# Altium schematic symbol library Regulator_Linear.SchLib: 1620 symbols (part 10 of 16)
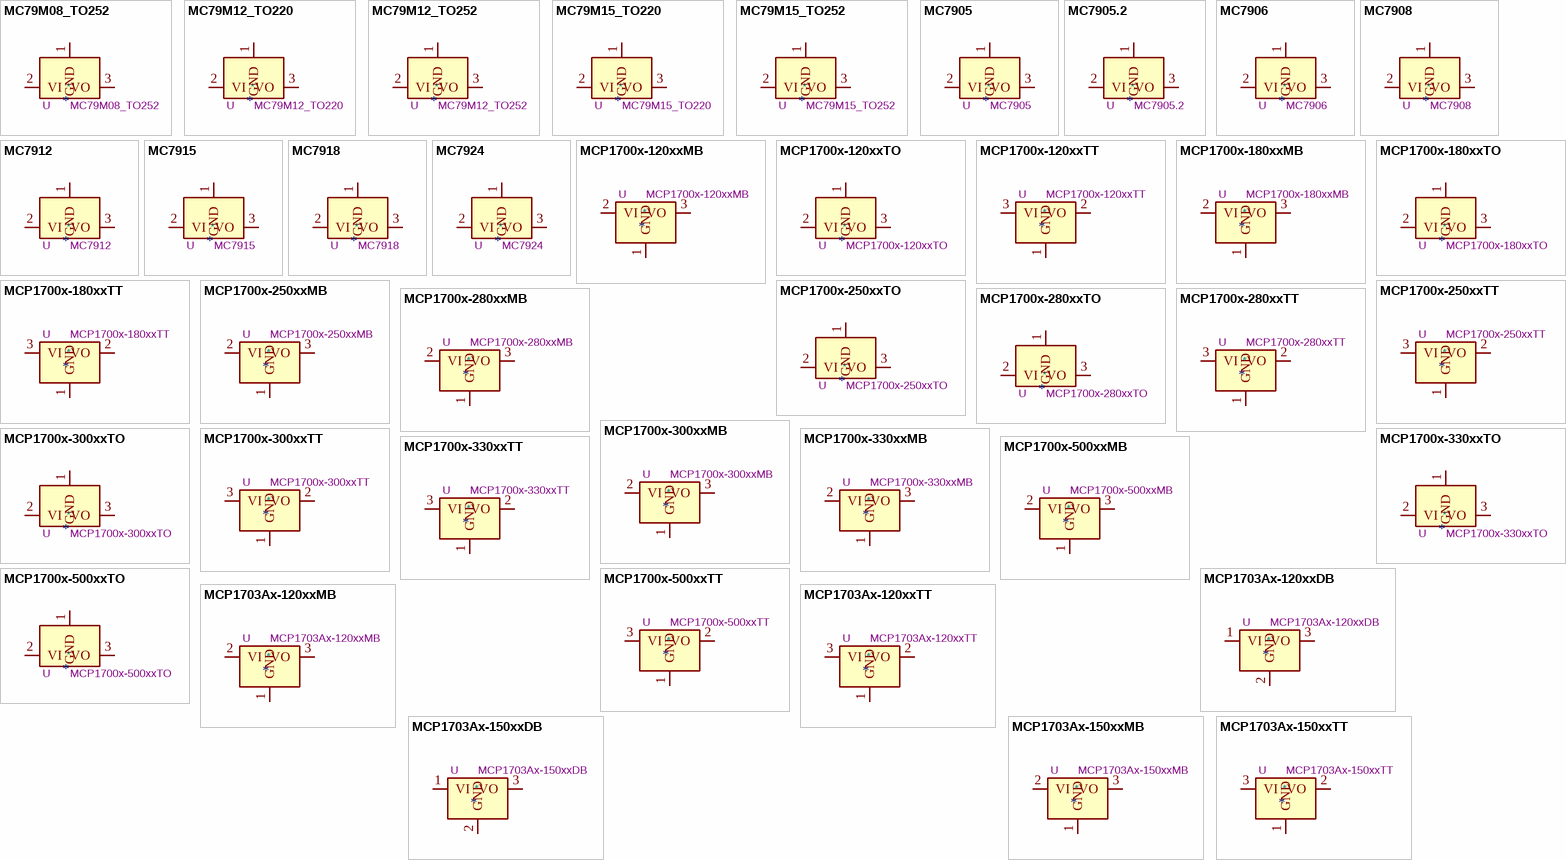
[diagram p49: symbols MC79M08_TO252 to MCP1703Ax-150xxTT]

## MCP1703Ax-120xxTT
designator *  value MCP1703Ax-120xxTT  Reference: U
Low Quiescent Current LDO Regulator, 1.2V, 250mA, Vin<=16V, SOT-23; ki_keywords: REGULATOR LDO; ki_fp_filters: SOT?23*; Footprint: Package_TO_SOT_SMD:SOT-23; Datasheet: http://ww1.microchip.com/downloads/en/DeviceDoc/20005122B.pdf; Description_: Low Quiescent Current LDO Regulator, 1.2V, 250mA, Vin<=16V, SOT-23
pins: 1 GND, 2 VO, 3 VI

## MCP1703Ax-150xxDB
designator *  value MCP1703Ax-150xxDB  Reference: U
Low Quiescent Current LDO Regulator, 1.5V, 250mA, Vin<=16V, SOT-223; ki_keywords: REGULATOR LDO; ki_fp_filters: SOT?223*TabPin2*; Footprint: Package_TO_SOT_SMD:SOT-223-3_TabPin2; Datasheet: http://ww1.microchip.com/downloads/en/DeviceDoc/20005122B.pdf; Description_: Low Quiescent Current LDO Regulator, 1.5V, 250mA, Vin<=16V, SOT-223
pins: 1 VI, 2 GND, 3 VO

## MCP1703Ax-150xxMB
designator *  value MCP1703Ax-150xxMB  Reference: U
Low Quiescent Current LDO Regulator, 1.5V, 250mA, Vin<=16V, SOT-89; ki_keywords: REGULATOR LDO; ki_fp_filters: SOT?89*; Footprint: Package_TO_SOT_SMD:SOT-89-3; Datasheet: http://ww1.microchip.com/downloads/en/DeviceDoc/20005122B.pdf; Description_: Low Quiescent Current LDO Regulator, 1.5V, 250mA, Vin<=16V, SOT-89
pins: 1 GND, 2 VI, 3 VO

## MCP1703Ax-150xxTT
designator *  value MCP1703Ax-150xxTT  Reference: U
Low Quiescent Current LDO Regulator, 1.5V, 250mA, Vin<=16V, SOT-23; ki_keywords: REGULATOR LDO; ki_fp_filters: SOT?23*; Footprint: Package_TO_SOT_SMD:SOT-23; Datasheet: http://ww1.microchip.com/downloads/en/DeviceDoc/20005122B.pdf; Description_: Low Quiescent Current LDO Regulator, 1.5V, 250mA, Vin<=16V, SOT-23
pins: 1 GND, 2 VO, 3 VI

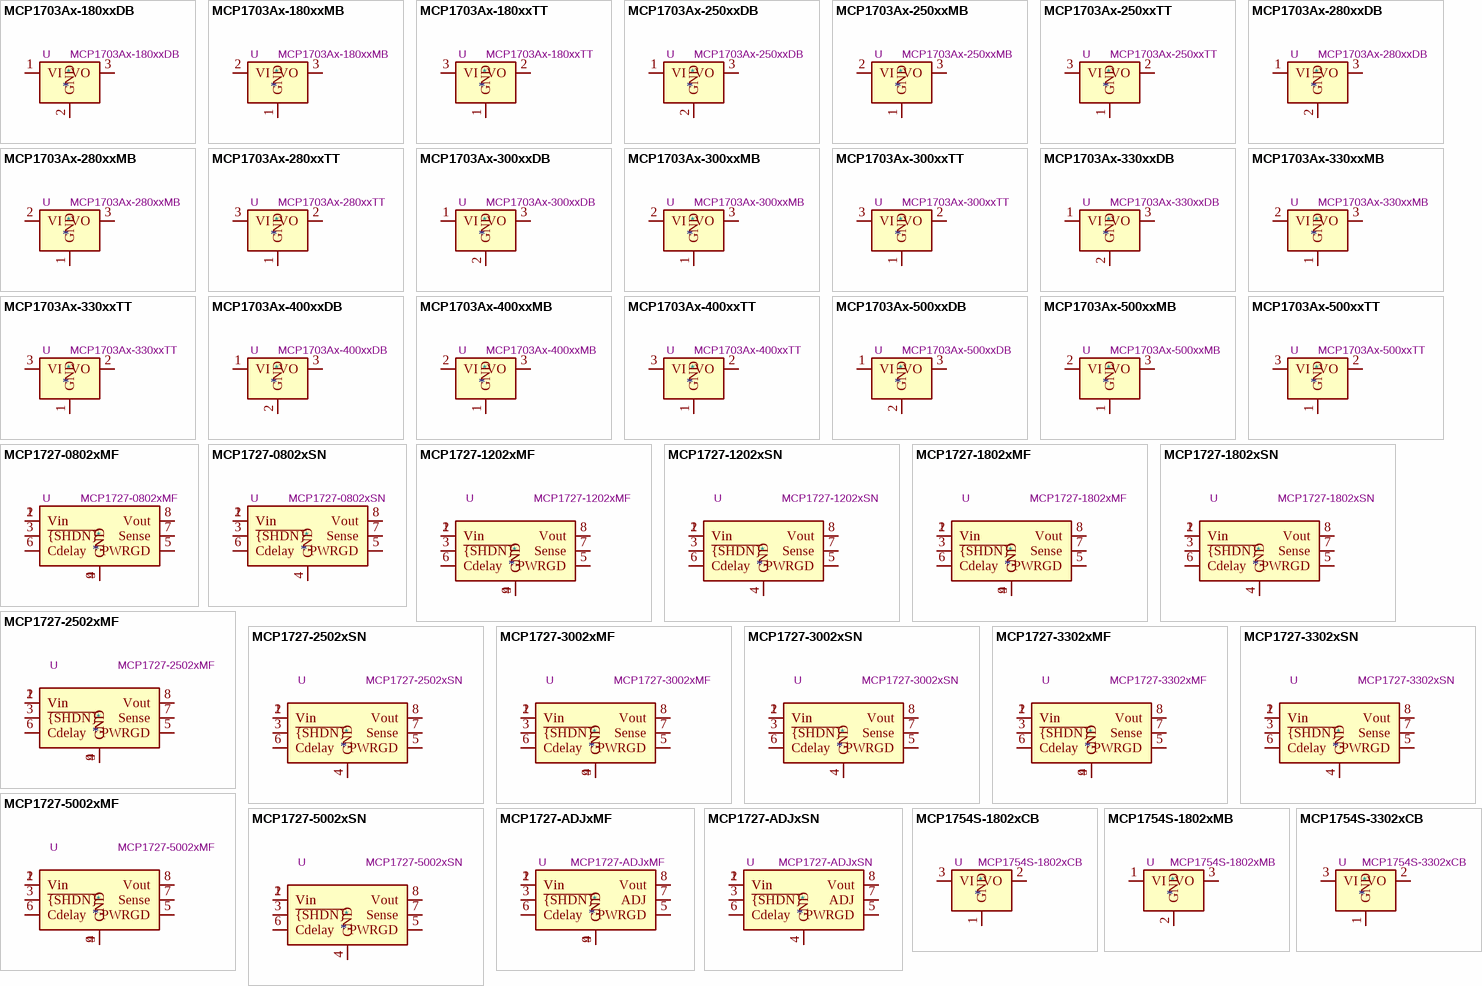
[diagram p24: symbols MCP1703Ax-180xxDB to MCP1754S-3302xCB]

## MCP1703Ax-180xxDB
designator *  value MCP1703Ax-180xxDB  Reference: U
Low Quiescent Current LDO Regulator, 1.8V, 250mA, Vin<=16V, SOT-223; ki_keywords: REGULATOR LDO; ki_fp_filters: SOT?223*TabPin2*; Footprint: Package_TO_SOT_SMD:SOT-223-3_TabPin2; Datasheet: http://ww1.microchip.com/downloads/en/DeviceDoc/20005122B.pdf; Description_: Low Quiescent Current LDO Regulator, 1.8V, 250mA, Vin<=16V, SOT-223
pins: 1 VI, 2 GND, 3 VO

## MCP1703Ax-180xxMB
designator *  value MCP1703Ax-180xxMB  Reference: U
Low Quiescent Current LDO Regulator, 1.8V, 250mA, Vin<=16V, SOT-89; ki_keywords: REGULATOR LDO; ki_fp_filters: SOT?89*; Footprint: Package_TO_SOT_SMD:SOT-89-3; Datasheet: http://ww1.microchip.com/downloads/en/DeviceDoc/20005122B.pdf; Description_: Low Quiescent Current LDO Regulator, 1.8V, 250mA, Vin<=16V, SOT-89
pins: 1 GND, 2 VI, 3 VO

## MCP1703Ax-180xxTT
designator *  value MCP1703Ax-180xxTT  Reference: U
Low Quiescent Current LDO Regulator, 1.8V, 250mA, Vin<=16V, SOT-23; ki_keywords: REGULATOR LDO; ki_fp_filters: SOT?23*; Footprint: Package_TO_SOT_SMD:SOT-23; Datasheet: http://ww1.microchip.com/downloads/en/DeviceDoc/20005122B.pdf; Description_: Low Quiescent Current LDO Regulator, 1.8V, 250mA, Vin<=16V, SOT-23
pins: 1 GND, 2 VO, 3 VI

## MCP1703Ax-250xxDB
designator *  value MCP1703Ax-250xxDB  Reference: U
Low Quiescent Current LDO Regulator, 2.5V, 250mA, Vin<=16V, SOT-223; ki_keywords: REGULATOR LDO; ki_fp_filters: SOT?223*TabPin2*; Footprint: Package_TO_SOT_SMD:SOT-223-3_TabPin2; Datasheet: http://ww1.microchip.com/downloads/en/DeviceDoc/20005122B.pdf; Description_: Low Quiescent Current LDO Regulator, 2.5V, 250mA, Vin<=16V, SOT-223
pins: 1 VI, 2 GND, 3 VO

## MCP1703Ax-250xxMB
designator *  value MCP1703Ax-250xxMB  Reference: U
Low Quiescent Current LDO Regulator, 2.5V, 250mA, Vin<=16V, SOT-89; ki_keywords: REGULATOR LDO; ki_fp_filters: SOT?89*; Footprint: Package_TO_SOT_SMD:SOT-89-3; Datasheet: http://ww1.microchip.com/downloads/en/DeviceDoc/20005122B.pdf; Description_: Low Quiescent Current LDO Regulator, 2.5V, 250mA, Vin<=16V, SOT-89
pins: 1 GND, 2 VI, 3 VO

## MCP1703Ax-250xxTT
designator *  value MCP1703Ax-250xxTT  Reference: U
Low Quiescent Current LDO Regulator, 2.5V, 250mA, Vin<=16V, SOT-23; ki_keywords: REGULATOR LDO; ki_fp_filters: SOT?23*; Footprint: Package_TO_SOT_SMD:SOT-23; Datasheet: http://ww1.microchip.com/downloads/en/DeviceDoc/20005122B.pdf; Description_: Low Quiescent Current LDO Regulator, 2.5V, 250mA, Vin<=16V, SOT-23
pins: 1 GND, 2 VO, 3 VI

## MCP1703Ax-280xxDB
designator *  value MCP1703Ax-280xxDB  Reference: U
Low Quiescent Current LDO Regulator, 2.8V, 250mA, Vin<=16V, SOT-223; ki_keywords: REGULATOR LDO; ki_fp_filters: SOT?223*TabPin2*; Footprint: Package_TO_SOT_SMD:SOT-223-3_TabPin2; Datasheet: http://ww1.microchip.com/downloads/en/DeviceDoc/20005122B.pdf; Description_: Low Quiescent Current LDO Regulator, 2.8V, 250mA, Vin<=16V, SOT-223
pins: 1 VI, 2 GND, 3 VO

## MCP1703Ax-280xxMB
designator *  value MCP1703Ax-280xxMB  Reference: U
Low Quiescent Current LDO Regulator, 2.8V, 250mA, Vin<=16V, SOT-89; ki_keywords: REGULATOR LDO; ki_fp_filters: SOT?89*; Footprint: Package_TO_SOT_SMD:SOT-89-3; Datasheet: http://ww1.microchip.com/downloads/en/DeviceDoc/20005122B.pdf; Description_: Low Quiescent Current LDO Regulator, 2.8V, 250mA, Vin<=16V, SOT-89
pins: 1 GND, 2 VI, 3 VO

## MCP1703Ax-280xxTT
designator *  value MCP1703Ax-280xxTT  Reference: U
Low Quiescent Current LDO Regulator, 2.8V, 250mA, Vin<=16V, SOT-23; ki_keywords: REGULATOR LDO; ki_fp_filters: SOT?23*; Footprint: Package_TO_SOT_SMD:SOT-23; Datasheet: http://ww1.microchip.com/downloads/en/DeviceDoc/20005122B.pdf; Description_: Low Quiescent Current LDO Regulator, 2.8V, 250mA, Vin<=16V, SOT-23
pins: 1 GND, 2 VO, 3 VI

## MCP1703Ax-300xxDB
designator *  value MCP1703Ax-300xxDB  Reference: U
Low Quiescent Current LDO Regulator, 3.0V, 250mA, Vin<=16V, SOT-223; ki_keywords: REGULATOR LDO; ki_fp_filters: SOT?223*TabPin2*; Footprint: Package_TO_SOT_SMD:SOT-223-3_TabPin2; Datasheet: http://ww1.microchip.com/downloads/en/DeviceDoc/20005122B.pdf; Description_: Low Quiescent Current LDO Regulator, 3.0V, 250mA, Vin<=16V, SOT-223
pins: 1 VI, 2 GND, 3 VO

## MCP1703Ax-300xxMB
designator *  value MCP1703Ax-300xxMB  Reference: U
Low Quiescent Current LDO Regulator, 3.0V, 250mA, Vin<=16V, SOT-89; ki_keywords: REGULATOR LDO; ki_fp_filters: SOT?89*; Footprint: Package_TO_SOT_SMD:SOT-89-3; Datasheet: http://ww1.microchip.com/downloads/en/DeviceDoc/20005122B.pdf; Description_: Low Quiescent Current LDO Regulator, 3.0V, 250mA, Vin<=16V, SOT-89
pins: 1 GND, 2 VI, 3 VO

## MCP1703Ax-300xxTT
designator *  value MCP1703Ax-300xxTT  Reference: U
Low Quiescent Current LDO Regulator, 3.0V, 250mA, Vin<=16V, SOT-23; ki_keywords: REGULATOR LDO; ki_fp_filters: SOT?23*; Footprint: Package_TO_SOT_SMD:SOT-23; Datasheet: http://ww1.microchip.com/downloads/en/DeviceDoc/20005122B.pdf; Description_: Low Quiescent Current LDO Regulator, 3.0V, 250mA, Vin<=16V, SOT-23
pins: 1 GND, 2 VO, 3 VI

## MCP1703Ax-330xxDB
designator *  value MCP1703Ax-330xxDB  Reference: U
Low Quiescent Current LDO Regulator, 3.3V, 250mA, Vin<=16V, SOT-223; ki_keywords: REGULATOR LDO; ki_fp_filters: SOT?223*TabPin2*; Footprint: Package_TO_SOT_SMD:SOT-223-3_TabPin2; Datasheet: http://ww1.microchip.com/downloads/en/DeviceDoc/20005122B.pdf; Description_: Low Quiescent Current LDO Regulator, 3.3V, 250mA, Vin<=16V, SOT-223
pins: 1 VI, 2 GND, 3 VO

## MCP1703Ax-330xxMB
designator *  value MCP1703Ax-330xxMB  Reference: U
Low Quiescent Current LDO Regulator, 3.3V, 250mA, Vin<=16V, SOT-89; ki_keywords: REGULATOR LDO; ki_fp_filters: SOT?89*; Footprint: Package_TO_SOT_SMD:SOT-89-3; Datasheet: http://ww1.microchip.com/downloads/en/DeviceDoc/20005122B.pdf; Description_: Low Quiescent Current LDO Regulator, 3.3V, 250mA, Vin<=16V, SOT-89
pins: 1 GND, 2 VI, 3 VO

## MCP1703Ax-330xxTT
designator *  value MCP1703Ax-330xxTT  Reference: U
Low Quiescent Current LDO Regulator, 3.3V, 250mA, Vin<=16V, SOT-23; ki_keywords: REGULATOR LDO; ki_fp_filters: SOT?23*; Footprint: Package_TO_SOT_SMD:SOT-23; Datasheet: http://ww1.microchip.com/downloads/en/DeviceDoc/20005122B.pdf; Description_: Low Quiescent Current LDO Regulator, 3.3V, 250mA, Vin<=16V, SOT-23
pins: 1 GND, 2 VO, 3 VI

## MCP1703Ax-400xxDB
designator *  value MCP1703Ax-400xxDB  Reference: U
Low Quiescent Current LDO Regulator, 4.0V, 250mA, Vin<=16V, SOT-223; ki_keywords: REGULATOR LDO; ki_fp_filters: SOT?223*TabPin2*; Footprint: Package_TO_SOT_SMD:SOT-223-3_TabPin2; Datasheet: http://ww1.microchip.com/downloads/en/DeviceDoc/20005122B.pdf; Description_: Low Quiescent Current LDO Regulator, 4.0V, 250mA, Vin<=16V, SOT-223
pins: 1 VI, 2 GND, 3 VO

## MCP1703Ax-400xxMB
designator *  value MCP1703Ax-400xxMB  Reference: U
Low Quiescent Current LDO Regulator, 4.0V, 250mA, Vin<=16V, SOT-89; ki_keywords: REGULATOR LDO; ki_fp_filters: SOT?89*; Footprint: Package_TO_SOT_SMD:SOT-89-3; Datasheet: http://ww1.microchip.com/downloads/en/DeviceDoc/20005122B.pdf; Description_: Low Quiescent Current LDO Regulator, 4.0V, 250mA, Vin<=16V, SOT-89
pins: 1 GND, 2 VI, 3 VO

## MCP1703Ax-400xxTT
designator *  value MCP1703Ax-400xxTT  Reference: U
Low Quiescent Current LDO Regulator, 4.0V, 250mA, Vin<=16V, SOT-23; ki_keywords: REGULATOR LDO; ki_fp_filters: SOT?23*; Footprint: Package_TO_SOT_SMD:SOT-23; Datasheet: http://ww1.microchip.com/downloads/en/DeviceDoc/20005122B.pdf; Description_: Low Quiescent Current LDO Regulator, 4.0V, 250mA, Vin<=16V, SOT-23
pins: 1 GND, 2 VO, 3 VI

## MCP1703Ax-500xxDB
designator *  value MCP1703Ax-500xxDB  Reference: U
Low Quiescent Current LDO Regulator, 5.0V, 250mA, Vin<=16V, SOT-223; ki_keywords: REGULATOR LDO; ki_fp_filters: SOT?223*TabPin2*; Footprint: Package_TO_SOT_SMD:SOT-223-3_TabPin2; Datasheet: http://ww1.microchip.com/downloads/en/DeviceDoc/20005122B.pdf; Description_: Low Quiescent Current LDO Regulator, 5.0V, 250mA, Vin<=16V, SOT-223
pins: 1 VI, 2 GND, 3 VO

## MCP1703Ax-500xxMB
designator *  value MCP1703Ax-500xxMB  Reference: U
Low Quiescent Current LDO Regulator, 5.0V, 250mA, Vin<=16V, SOT-89; ki_keywords: REGULATOR LDO; ki_fp_filters: SOT?89*; Footprint: Package_TO_SOT_SMD:SOT-89-3; Datasheet: http://ww1.microchip.com/downloads/en/DeviceDoc/20005122B.pdf; Description_: Low Quiescent Current LDO Regulator, 5.0V, 250mA, Vin<=16V, SOT-89
pins: 1 GND, 2 VI, 3 VO

## MCP1703Ax-500xxTT
designator *  value MCP1703Ax-500xxTT  Reference: U
Low Quiescent Current LDO Regulator, 5.0V, 250mA, Vin<=16V, SOT-23; ki_keywords: REGULATOR LDO; ki_fp_filters: SOT?23*; Footprint: Package_TO_SOT_SMD:SOT-23; Datasheet: http://ww1.microchip.com/downloads/en/DeviceDoc/20005122B.pdf; Description_: Low Quiescent Current LDO Regulator, 5.0V, 250mA, Vin<=16V, SOT-23
pins: 1 GND, 2 VO, 3 VI

## MCP1727-0802xMF
designator *  value MCP1727-0802xMF  Reference: U
1.5A, Low Voltage, Low Quiescent Current LDO Regulator, 2.3 - 6V Input, Fixed 0.8V Output, 330mV Dropout, DFN-8; ki_keywords: Low Voltage Low Quiescent Current Fixed LDO Regulator; ki_fp_filters: DFN*3x3mm*P0.65mm*; Footprint: Package_DFN_QFN:DFN-8-1EP_3x3mm_P0.65mm_EP1.55x2.4mm; Datasheet: https://ww1.microchip.com/downloads/aemtest/APID/ProductDocuments/DataSheets/MCP1727-1.5A-Low-Voltage-Low-Quiescent-Current-LDO-Regulator-20001999D.pdf; Description_: 1.5A, Low Voltage, Low Quiescent Current LDO Regulator, 2.3 - 6V Input, Fixed 0.8V Output, 330mV Dropout, DFN-8
pins: 1 Vin, 2 Vin, 3 ~{{SHDN}}, 4 GND, 5 PWRGD, 6 Cdelay, 7 Sense, 8 Vout, 9 GND

## MCP1727-0802xSN
designator *  value MCP1727-0802xSN  Reference: U
1.5A, Low Voltage, Low Quiescent Current LDO Regulator, 2.3 - 6V Input, Fixed 0.8V Output, 330mV Dropout, SOIC-8; ki_keywords: Low Voltage Low Quiescent Current Fixed LDO Regulator; ki_fp_filters: SOIC*3.9x4.9mm*P1.27mm*; Footprint: Package_SO:SOIC-8_3.9x4.9mm_P1.27mm; Datasheet: https://ww1.microchip.com/downloads/aemtest/APID/ProductDocuments/DataSheets/MCP1727-1.5A-Low-Voltage-Low-Quiescent-Current-LDO-Regulator-20001999D.pdf; Description_: 1.5A, Low Voltage, Low Quiescent Current LDO Regulator, 2.3 - 6V Input, Fixed 0.8V Output, 330mV Dropout, SOIC-8
pins: 1 Vin, 2 Vin, 3 ~{{SHDN}}, 4 GND, 5 PWRGD, 6 Cdelay, 7 Sense, 8 Vout

## MCP1727-1202xMF
designator *  value MCP1727-1202xMF  Reference: U
1.5A, Low Voltage, Low Quiescent Current LDO Regulator, 2.3 - 6V Input, Fixed 1.2V Output, 330mV Dropout, DFN-8; ki_keywords: Low Voltage Low Quiescent Current Fixed LDO Regulator; ki_fp_filters: DFN*3x3mm*P0.65mm*; Footprint: Package_DFN_QFN:DFN-8-1EP_3x3mm_P0.65mm_EP1.55x2.4mm; Datasheet: https://ww1.microchip.com/downloads/aemtest/APID/ProductDocuments/DataSheets/MCP1727-1.5A-Low-Voltage-Low-Quiescent-Current-LDO-Regulator-20001999D.pdf; Description_: 1.5A, Low Voltage, Low Quiescent Current LDO Regulator, 2.3 - 6V Input, Fixed 1.2V Output, 330mV Dropout, DFN-8
pins: 1 Vin, 2 Vin, 3 ~{{SHDN}}, 4 GND, 5 PWRGD, 6 Cdelay, 7 Sense, 8 Vout, 9 GND

## MCP1727-1202xSN
designator *  value MCP1727-1202xSN  Reference: U
1.5A, Low Voltage, Low Quiescent Current LDO Regulator, 2.3 - 6V Input, Fixed 1.2V Output, 330mV Dropout, SOIC-8; ki_keywords: Low Voltage Low Quiescent Current Fixed LDO Regulator; ki_fp_filters: SOIC*3.9x4.9mm*P1.27mm*; Footprint: Package_SO:SOIC-8_3.9x4.9mm_P1.27mm; Datasheet: https://ww1.microchip.com/downloads/aemtest/APID/ProductDocuments/DataSheets/MCP1727-1.5A-Low-Voltage-Low-Quiescent-Current-LDO-Regulator-20001999D.pdf; Description_: 1.5A, Low Voltage, Low Quiescent Current LDO Regulator, 2.3 - 6V Input, Fixed 1.2V Output, 330mV Dropout, SOIC-8
pins: 1 Vin, 2 Vin, 3 ~{{SHDN}}, 4 GND, 5 PWRGD, 6 Cdelay, 7 Sense, 8 Vout

## MCP1727-1802xMF
designator *  value MCP1727-1802xMF  Reference: U
1.5A, Low Voltage, Low Quiescent Current LDO Regulator, 2.3 - 6V Input, Fixed 1.8V Output, 330mV Dropout, DFN-8; ki_keywords: Low Voltage Low Quiescent Current Fixed LDO Regulator; ki_fp_filters: DFN*3x3mm*P0.65mm*; Footprint: Package_DFN_QFN:DFN-8-1EP_3x3mm_P0.65mm_EP1.55x2.4mm; Datasheet: https://ww1.microchip.com/downloads/aemtest/APID/ProductDocuments/DataSheets/MCP1727-1.5A-Low-Voltage-Low-Quiescent-Current-LDO-Regulator-20001999D.pdf; Description_: 1.5A, Low Voltage, Low Quiescent Current LDO Regulator, 2.3 - 6V Input, Fixed 1.8V Output, 330mV Dropout, DFN-8
pins: 1 Vin, 2 Vin, 3 ~{{SHDN}}, 4 GND, 5 PWRGD, 6 Cdelay, 7 Sense, 8 Vout, 9 GND

## MCP1727-1802xSN
designator *  value MCP1727-1802xSN  Reference: U
1.5A, Low Voltage, Low Quiescent Current LDO Regulator, 2.3 - 6V Input, Fixed 1.8V Output, 330mV Dropout, SOIC-8; ki_keywords: Low Voltage Low Quiescent Current Fixed LDO Regulator; ki_fp_filters: SOIC*3.9x4.9mm*P1.27mm*; Footprint: Package_SO:SOIC-8_3.9x4.9mm_P1.27mm; Datasheet: https://ww1.microchip.com/downloads/aemtest/APID/ProductDocuments/DataSheets/MCP1727-1.5A-Low-Voltage-Low-Quiescent-Current-LDO-Regulator-20001999D.pdf; Description_: 1.5A, Low Voltage, Low Quiescent Current LDO Regulator, 2.3 - 6V Input, Fixed 1.8V Output, 330mV Dropout, SOIC-8
pins: 1 Vin, 2 Vin, 3 ~{{SHDN}}, 4 GND, 5 PWRGD, 6 Cdelay, 7 Sense, 8 Vout

## MCP1727-2502xMF
designator *  value MCP1727-2502xMF  Reference: U
1.5A, Low Voltage, Low Quiescent Current LDO Regulator, 2.3 - 6V Input, Fixed 2.5V Output, 330mV Dropout, DFN-8; ki_keywords: Low Voltage Low Quiescent Current Fixed LDO Regulator; ki_fp_filters: DFN*3x3mm*P0.65mm*; Footprint: Package_DFN_QFN:DFN-8-1EP_3x3mm_P0.65mm_EP1.55x2.4mm; Datasheet: https://ww1.microchip.com/downloads/aemtest/APID/ProductDocuments/DataSheets/MCP1727-1.5A-Low-Voltage-Low-Quiescent-Current-LDO-Regulator-20001999D.pdf; Description_: 1.5A, Low Voltage, Low Quiescent Current LDO Regulator, 2.3 - 6V Input, Fixed 2.5V Output, 330mV Dropout, DFN-8
pins: 1 Vin, 2 Vin, 3 ~{{SHDN}}, 4 GND, 5 PWRGD, 6 Cdelay, 7 Sense, 8 Vout, 9 GND

## MCP1727-2502xSN
designator *  value MCP1727-2502xSN  Reference: U
1.5A, Low Voltage, Low Quiescent Current LDO Regulator, 2.3 - 6V Input, Fixed 2.5V Output, 330mV Dropout, SOIC-8; ki_keywords: Low Voltage Low Quiescent Current Fixed LDO Regulator; ki_fp_filters: SOIC*3.9x4.9mm*P1.27mm*; Footprint: Package_SO:SOIC-8_3.9x4.9mm_P1.27mm; Datasheet: https://ww1.microchip.com/downloads/aemtest/APID/ProductDocuments/DataSheets/MCP1727-1.5A-Low-Voltage-Low-Quiescent-Current-LDO-Regulator-20001999D.pdf; Description_: 1.5A, Low Voltage, Low Quiescent Current LDO Regulator, 2.3 - 6V Input, Fixed 2.5V Output, 330mV Dropout, SOIC-8
pins: 1 Vin, 2 Vin, 3 ~{{SHDN}}, 4 GND, 5 PWRGD, 6 Cdelay, 7 Sense, 8 Vout

## MCP1727-3002xMF
designator *  value MCP1727-3002xMF  Reference: U
1.5A, Low Voltage, Low Quiescent Current LDO Regulator, 2.3 - 6V Input, Fixed 3.0V Output, 330mV Dropout, DFN-8; ki_keywords: Low Voltage Low Quiescent Current Fixed LDO Regulator; ki_fp_filters: DFN*3x3mm*P0.65mm*; Footprint: Package_DFN_QFN:DFN-8-1EP_3x3mm_P0.65mm_EP1.55x2.4mm; Datasheet: https://ww1.microchip.com/downloads/aemtest/APID/ProductDocuments/DataSheets/MCP1727-1.5A-Low-Voltage-Low-Quiescent-Current-LDO-Regulator-20001999D.pdf; Description_: 1.5A, Low Voltage, Low Quiescent Current LDO Regulator, 2.3 - 6V Input, Fixed 3.0V Output, 330mV Dropout, DFN-8
pins: 1 Vin, 2 Vin, 3 ~{{SHDN}}, 4 GND, 5 PWRGD, 6 Cdelay, 7 Sense, 8 Vout, 9 GND

## MCP1727-3002xSN
designator *  value MCP1727-3002xSN  Reference: U
1.5A, Low Voltage, Low Quiescent Current LDO Regulator, 2.3 - 6V Input, Fixed 3.0V Output, 330mV Dropout, SOIC-8; ki_keywords: Low Voltage Low Quiescent Current Fixed LDO Regulator; ki_fp_filters: SOIC*3.9x4.9mm*P1.27mm*; Footprint: Package_SO:SOIC-8_3.9x4.9mm_P1.27mm; Datasheet: https://ww1.microchip.com/downloads/aemtest/APID/ProductDocuments/DataSheets/MCP1727-1.5A-Low-Voltage-Low-Quiescent-Current-LDO-Regulator-20001999D.pdf; Description_: 1.5A, Low Voltage, Low Quiescent Current LDO Regulator, 2.3 - 6V Input, Fixed 3.0V Output, 330mV Dropout, SOIC-8
pins: 1 Vin, 2 Vin, 3 ~{{SHDN}}, 4 GND, 5 PWRGD, 6 Cdelay, 7 Sense, 8 Vout

## MCP1727-3302xMF
designator *  value MCP1727-3302xMF  Reference: U
1.5A, Low Voltage, Low Quiescent Current LDO Regulator, 2.3 - 6V Input, Fixed 3.3V Output, 330mV Dropout, DFN-8; ki_keywords: Low Voltage Low Quiescent Current Fixed LDO Regulator; ki_fp_filters: DFN*3x3mm*P0.65mm*; Footprint: Package_DFN_QFN:DFN-8-1EP_3x3mm_P0.65mm_EP1.55x2.4mm; Datasheet: https://ww1.microchip.com/downloads/aemtest/APID/ProductDocuments/DataSheets/MCP1727-1.5A-Low-Voltage-Low-Quiescent-Current-LDO-Regulator-20001999D.pdf; Description_: 1.5A, Low Voltage, Low Quiescent Current LDO Regulator, 2.3 - 6V Input, Fixed 3.3V Output, 330mV Dropout, DFN-8
pins: 1 Vin, 2 Vin, 3 ~{{SHDN}}, 4 GND, 5 PWRGD, 6 Cdelay, 7 Sense, 8 Vout, 9 GND

## MCP1727-3302xSN
designator *  value MCP1727-3302xSN  Reference: U
1.5A, Low Voltage, Low Quiescent Current LDO Regulator, 2.3 - 6V Input, Fixed 3.3V Output, 330mV Dropout, SOIC-8; ki_keywords: Low Voltage Low Quiescent Current Fixed LDO Regulator; ki_fp_filters: SOIC*3.9x4.9mm*P1.27mm*; Footprint: Package_SO:SOIC-8_3.9x4.9mm_P1.27mm; Datasheet: https://ww1.microchip.com/downloads/aemtest/APID/ProductDocuments/DataSheets/MCP1727-1.5A-Low-Voltage-Low-Quiescent-Current-LDO-Regulator-20001999D.pdf; Description_: 1.5A, Low Voltage, Low Quiescent Current LDO Regulator, 2.3 - 6V Input, Fixed 3.3V Output, 330mV Dropout, SOIC-8
pins: 1 Vin, 2 Vin, 3 ~{{SHDN}}, 4 GND, 5 PWRGD, 6 Cdelay, 7 Sense, 8 Vout

## MCP1727-5002xMF
designator *  value MCP1727-5002xMF  Reference: U
1.5A, Low Voltage, Low Quiescent Current LDO Regulator, 2.3 - 6V Input, Fixed 5.0V Output, 330mV Dropout, DFN-8; ki_keywords: Low Voltage Low Quiescent Current Fixed LDO Regulator; ki_fp_filters: DFN*3x3mm*P0.65mm*; Footprint: Package_DFN_QFN:DFN-8-1EP_3x3mm_P0.65mm_EP1.55x2.4mm; Datasheet: https://ww1.microchip.com/downloads/aemtest/APID/ProductDocuments/DataSheets/MCP1727-1.5A-Low-Voltage-Low-Quiescent-Current-LDO-Regulator-20001999D.pdf; Description_: 1.5A, Low Voltage, Low Quiescent Current LDO Regulator, 2.3 - 6V Input, Fixed 5.0V Output, 330mV Dropout, DFN-8
pins: 1 Vin, 2 Vin, 3 ~{{SHDN}}, 4 GND, 5 PWRGD, 6 Cdelay, 7 Sense, 8 Vout, 9 GND

## MCP1727-5002xSN
designator *  value MCP1727-5002xSN  Reference: U
1.5A, Low Voltage, Low Quiescent Current LDO Regulator, 2.3 - 6V Input, Fixed 5.0V Output, 330mV Dropout, SOIC-8; ki_keywords: Low Voltage Low Quiescent Current Fixed LDO Regulator; ki_fp_filters: SOIC*3.9x4.9mm*P1.27mm*; Footprint: Package_SO:SOIC-8_3.9x4.9mm_P1.27mm; Datasheet: https://ww1.microchip.com/downloads/aemtest/APID/ProductDocuments/DataSheets/MCP1727-1.5A-Low-Voltage-Low-Quiescent-Current-LDO-Regulator-20001999D.pdf; Description_: 1.5A, Low Voltage, Low Quiescent Current LDO Regulator, 2.3 - 6V Input, Fixed 5.0V Output, 330mV Dropout, SOIC-8
pins: 1 Vin, 2 Vin, 3 ~{{SHDN}}, 4 GND, 5 PWRGD, 6 Cdelay, 7 Sense, 8 Vout

## MCP1727-ADJxMF
designator *  value MCP1727-ADJxMF  Reference: U
1.5A, Low Voltage, Low Quiescent Current LDO Regulator, 2.3 - 6V Input, Adjustable Output, 330mV Dropout, DFN-8; ki_keywords: Low Voltage Low Quiescent Current Adjustable LDO Regulator; ki_fp_filters: DFN*3x3mm*P0.65mm*; Footprint: Package_DFN_QFN:DFN-8-1EP_3x3mm_P0.65mm_EP1.55x2.4mm; Datasheet: https://ww1.microchip.com/downloads/aemtest/APID/ProductDocuments/DataSheets/MCP1727-1.5A-Low-Voltage-Low-Quiescent-Current-LDO-Regulator-20001999D.pdf; Description_: 1.5A, Low Voltage, Low Quiescent Current LDO Regulator, 2.3 - 6V Input, Adjustable Output, 330mV Dropout, DFN-8
pins: 1 Vin, 2 Vin, 3 ~{{SHDN}}, 4 GND, 5 PWRGD, 6 Cdelay, 7 ADJ, 8 Vout, 9 GND

## MCP1727-ADJxSN
designator *  value MCP1727-ADJxSN  Reference: U
1.5A, Low Voltage, Low Quiescent Current LDO Regulator, 2.3 - 6V Input, Adjustable Output, 330mV Dropout, SOIC-8; ki_keywords: Low Voltage Low Quiescent Current Adjustable LDO Regulator; ki_fp_filters: SOIC*3.9x4.9mm*P1.27mm*; Footprint: Package_SO:SOIC-8_3.9x4.9mm_P1.27mm; Datasheet: https://ww1.microchip.com/downloads/aemtest/APID/ProductDocuments/DataSheets/MCP1727-1.5A-Low-Voltage-Low-Quiescent-Current-LDO-Regulator-20001999D.pdf; Description_: 1.5A, Low Voltage, Low Quiescent Current LDO Regulator, 2.3 - 6V Input, Adjustable Output, 330mV Dropout, SOIC-8
pins: 1 Vin, 2 Vin, 3 ~{{SHDN}}, 4 GND, 5 PWRGD, 6 Cdelay, 7 ADJ, 8 Vout

## MCP1754S-1802xCB
designator *  value MCP1754S-1802xCB  Reference: U
Fixed 150mA Low Dropout Voltage Regulator, Positive, 1.8V output, SOT-23; ki_keywords: Regulator LDO; ki_fp_filters: SOT?23*; Footprint: Package_TO_SOT_SMD:SOT-23; Datasheet: http://ww1.microchip.com/downloads/en/DeviceDoc/20002276C.pdf; Description_: Fixed 150mA Low Dropout Voltage Regulator, Positive, 1.8V output, SOT-23
pins: 1 GND, 2 VO, 3 VI

## MCP1754S-1802xMB
designator *  value MCP1754S-1802xMB  Reference: U
Fixed 150mA Low Dropout Voltage Regulator, Positive, 1.8V output, SOT-89; ki_keywords: Regulator LDO; ki_fp_filters: SOT?89*; Footprint: Package_TO_SOT_SMD:SOT-89-3; Datasheet: http://ww1.microchip.com/downloads/en/DeviceDoc/20002276C.pdf; Description_: Fixed 150mA Low Dropout Voltage Regulator, Positive, 1.8V output, SOT-89
pins: 1 VI, 2 GND, 3 VO

## MCP1754S-3302xCB
designator *  value MCP1754S-3302xCB  Reference: U
Fixed 150mA Low Dropout Voltage Regulator, Positive, 3.3V output, SOT-23; ki_keywords: Regulator LDO; ki_fp_filters: SOT?23*; Footprint: Package_TO_SOT_SMD:SOT-23; Datasheet: http://ww1.microchip.com/downloads/en/DeviceDoc/20002276C.pdf; Description_: Fixed 150mA Low Dropout Voltage Regulator, Positive, 3.3V output, SOT-23
pins: 1 GND, 2 VO, 3 VI

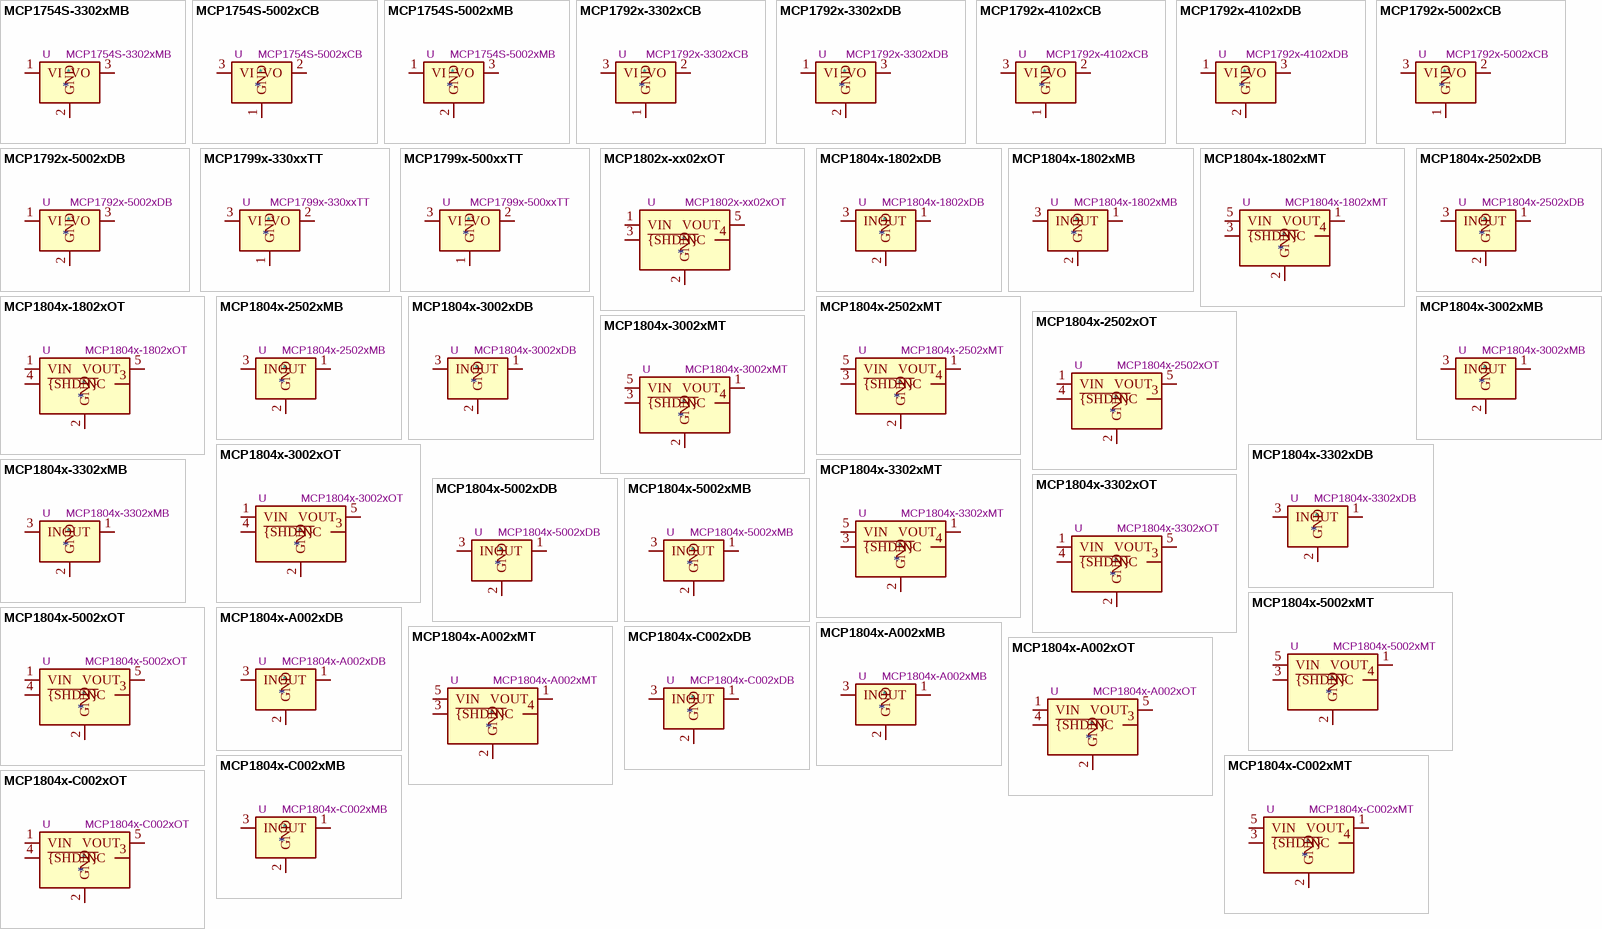
[diagram p25: symbols MCP1754S-3302xMB to MCP1804x-C002xOT]

## MCP1754S-3302xMB
designator *  value MCP1754S-3302xMB  Reference: U
Fixed 150mA Low Dropout Voltage Regulator, Positive, 3.3V output, SOT-89; ki_keywords: Regulator LDO; ki_fp_filters: SOT?89*; Footprint: Package_TO_SOT_SMD:SOT-89-3; Datasheet: http://ww1.microchip.com/downloads/en/DeviceDoc/20002276C.pdf; Description_: Fixed 150mA Low Dropout Voltage Regulator, Positive, 3.3V output, SOT-89
pins: 1 VI, 2 GND, 3 VO

## MCP1754S-5002xCB
designator *  value MCP1754S-5002xCB  Reference: U
Fixed 150mA Low Dropout Voltage Regulator, Positive, 5V output, SOT-23; ki_keywords: Regulator LDO; ki_fp_filters: SOT?23*; Footprint: Package_TO_SOT_SMD:SOT-23; Datasheet: http://ww1.microchip.com/downloads/en/DeviceDoc/20002276C.pdf; Description_: Fixed 150mA Low Dropout Voltage Regulator, Positive, 5V output, SOT-23
pins: 1 GND, 2 VO, 3 VI

## MCP1754S-5002xMB
designator *  value MCP1754S-5002xMB  Reference: U
Fixed 150mA Low Dropout Voltage Regulator, Positive, 5V output, SOT-89; ki_keywords: Regulator LDO; ki_fp_filters: SOT?89*; Footprint: Package_TO_SOT_SMD:SOT-89-3; Datasheet: http://ww1.microchip.com/downloads/en/DeviceDoc/20002276C.pdf; Description_: Fixed 150mA Low Dropout Voltage Regulator, Positive, 5V output, SOT-89
pins: 1 VI, 2 GND, 3 VO

## MCP1792x-3302xCB
designator *  value MCP1792x-3302xCB  Reference: U
100mA Low Quiscent Current LDO, 4.5-55V input, 3.3V output, SOT-23; ki_keywords: regulator linear ldo; ki_fp_filters: SOT?23*; Footprint: Package_TO_SOT_SMD:SOT-23; Datasheet: https://ww1.microchip.com/downloads/aemDocuments/documents/APID/ProductDocuments/DataSheets/MCP1792-Family-Data-Sheet-DS20006229D.pdf; Description_: 100mA Low Quiscent Current LDO, 4.5-55V input, 3.3V output, SOT-23
pins: 1 GND, 2 VO, 3 VI

## MCP1792x-3302xDB
designator *  value MCP1792x-3302xDB  Reference: U
Low Quiescent Current LDO Regulator, 4.5-55V input, 3.3V, 100mA, SOT-223; ki_keywords: REGULATOR LDO; ki_fp_filters: SOT?223*TabPin2*; Footprint: Package_TO_SOT_SMD:SOT-223-3_TabPin2; Datasheet: https://ww1.microchip.com/downloads/aemDocuments/documents/APID/ProductDocuments/DataSheets/MCP1792-Family-Data-Sheet-DS20006229D.pdf; Description_: Low Quiescent Current LDO Regulator, 4.5-55V input, 3.3V, 100mA, SOT-223
pins: 1 VI, 2 GND, 3 VO

## MCP1792x-4102xCB
designator *  value MCP1792x-4102xCB  Reference: U
100mA Low Quiscent Current LDO, 4.5-55V input, 4.1V output, SOT-23; ki_keywords: regulator linear ldo; ki_fp_filters: SOT?23*; Footprint: Package_TO_SOT_SMD:SOT-23; Datasheet: https://ww1.microchip.com/downloads/aemDocuments/documents/APID/ProductDocuments/DataSheets/MCP1792-Family-Data-Sheet-DS20006229D.pdf; Description_: 100mA Low Quiscent Current LDO, 4.5-55V input, 4.1V output, SOT-23
pins: 1 GND, 2 VO, 3 VI

## MCP1792x-4102xDB
designator *  value MCP1792x-4102xDB  Reference: U
Low Quiescent Current LDO Regulator, 4.5-55V input, 4.1V, 100mA, SOT-223; ki_keywords: REGULATOR LDO; ki_fp_filters: SOT?223*TabPin2*; Footprint: Package_TO_SOT_SMD:SOT-223-3_TabPin2; Datasheet: https://ww1.microchip.com/downloads/aemDocuments/documents/APID/ProductDocuments/DataSheets/MCP1792-Family-Data-Sheet-DS20006229D.pdf; Description_: Low Quiescent Current LDO Regulator, 4.5-55V input, 4.1V, 100mA, SOT-223
pins: 1 VI, 2 GND, 3 VO

## MCP1792x-5002xCB
designator *  value MCP1792x-5002xCB  Reference: U
100mA Low Quiscent Current LDO, 4.5-55V input, 5.0V output, SOT-23; ki_keywords: regulator linear ldo; ki_fp_filters: SOT?23*; Footprint: Package_TO_SOT_SMD:SOT-23; Datasheet: https://ww1.microchip.com/downloads/aemDocuments/documents/APID/ProductDocuments/DataSheets/MCP1792-Family-Data-Sheet-DS20006229D.pdf; Description_: 100mA Low Quiscent Current LDO, 4.5-55V input, 5.0V output, SOT-23
pins: 1 GND, 2 VO, 3 VI

## MCP1792x-5002xDB
designator *  value MCP1792x-5002xDB  Reference: U
Low Quiescent Current LDO Regulator, 4.5-55V input, 5.0V, 100mA, SOT-223; ki_keywords: REGULATOR LDO; ki_fp_filters: SOT?223*TabPin2*; Footprint: Package_TO_SOT_SMD:SOT-223-3_TabPin2; Datasheet: https://ww1.microchip.com/downloads/aemDocuments/documents/APID/ProductDocuments/DataSheets/MCP1792-Family-Data-Sheet-DS20006229D.pdf; Description_: Low Quiescent Current LDO Regulator, 4.5-55V input, 5.0V, 100mA, SOT-223
pins: 1 VI, 2 GND, 3 VO

## MCP1799x-330xxTT
designator *  value MCP1799x-330xxTT  Reference: U
80 mA High-Voltage Automotive LDO, 3.3V output, SOT-23; ki_keywords: regulator linear ldo; ki_fp_filters: SOT?23*; Footprint: Package_TO_SOT_SMD:SOT-23; Datasheet: https://ww1.microchip.com/downloads/en/DeviceDoc/MCP1799-Data-Sheet-20006248A.pdf; Description_: 80 mA High-Voltage Automotive LDO, 3.3V output, SOT-23
pins: 1 GND, 2 VO, 3 VI

## MCP1799x-500xxTT
designator *  value MCP1799x-500xxTT  Reference: U
80 mA High-Voltage Automotive LDO, 5V output, SOT-23; ki_keywords: regulator linear ldo; ki_fp_filters: SOT?23*; Footprint: Package_TO_SOT_SMD:SOT-23; Datasheet: https://ww1.microchip.com/downloads/en/DeviceDoc/MCP1799-Data-Sheet-20006248A.pdf; Description_: 80 mA High-Voltage Automotive LDO, 5V output, SOT-23
pins: 1 GND, 2 VO, 3 VI

## MCP1802x-xx02xOT
designator *  value MCP1802x-xx02xOT  Reference: U
150mA, Tiny CMOS LDO With Shutdown, Fixed Voltage, SOT-23-5; ki_keywords: LDO Linear Voltage Regulator; ki_fp_filters: SOT?23*; Footprint: Package_TO_SOT_SMD:SOT-23-5; Datasheet: http://ww1.microchip.com/downloads/en/DeviceDoc/22053C.pdf; Description_: 150mA, Tiny CMOS LDO With Shutdown, Fixed Voltage, SOT-23-5
pins: 1 VIN, 2 GND, 3 ~{{SHDN}}, 4 NC, 5 VOUT

## MCP1804x-1802xDB
designator *  value MCP1804x-1802xDB  Reference: U
150mA, 28V LDO Regulator With Shutdown, 1.8V Fixed Output, SOT-223; ki_keywords: linear regulator ldo fixed positive; ki_fp_filters: SOT?223*; Footprint: Package_TO_SOT_SMD:SOT-223-3_TabPin2; Datasheet: http://ww1.microchip.com/downloads/en/DeviceDoc/20002200D.pdf; Description_: 150mA, 28V LDO Regulator With Shutdown, 1.8V Fixed Output, SOT-223
pins: 1 OUT, 2 GND, 3 IN

## MCP1804x-1802xMB
designator *  value MCP1804x-1802xMB  Reference: U
150mA, 28V LDO Regulator With Shutdown, 1.8V Fixed Output, SOT-89-3; ki_keywords: linear regulator ldo fixed positive; ki_fp_filters: SOT?89*; Footprint: Package_TO_SOT_SMD:SOT-89-3; Datasheet: http://ww1.microchip.com/downloads/en/DeviceDoc/20002200D.pdf; Description_: 150mA, 28V LDO Regulator With Shutdown, 1.8V Fixed Output, SOT-89-3
pins: 1 OUT, 2 GND, 3 IN

## MCP1804x-1802xMT
designator *  value MCP1804x-1802xMT  Reference: U
150mA, 28V LDO Regulator With Shutdown, 1.8V Fixed Output, SOT-89-5; ki_keywords: linear regulator ldo fixed positive; ki_fp_filters: SOT?89*; Footprint: Package_TO_SOT_SMD:SOT-89-5; Datasheet: http://ww1.microchip.com/downloads/en/DeviceDoc/20002200D.pdf; Description_: 150mA, 28V LDO Regulator With Shutdown, 1.8V Fixed Output, SOT-89-5
pins: 1 VOUT, 2 GND, 3 ~{{SHDN}}, 4 NC, 5 VIN

## MCP1804x-1802xOT
designator *  value MCP1804x-1802xOT  Reference: U
150mA, 28V LDO Regulator With Shutdown, 1.8V Fixed Output, SOT-23-5; ki_keywords: linear regulator ldo fixed positive; ki_fp_filters: SOT?23*; Footprint: Package_TO_SOT_SMD:SOT-23-5; Datasheet: http://ww1.microchip.com/downloads/en/DeviceDoc/20002200D.pdf; Description_: 150mA, 28V LDO Regulator With Shutdown, 1.8V Fixed Output, SOT-23-5
pins: 1 VIN, 2 GND, 3 NC, 4 ~{{SHDN}}, 5 VOUT

## MCP1804x-2502xDB
designator *  value MCP1804x-2502xDB  Reference: U
150mA, 28V LDO Regulator With Shutdown, 2.5V Fixed Output, SOT-223; ki_keywords: linear regulator ldo fixed positive; ki_fp_filters: SOT?223*; Footprint: Package_TO_SOT_SMD:SOT-223-3_TabPin2; Datasheet: http://ww1.microchip.com/downloads/en/DeviceDoc/20002200D.pdf; Description_: 150mA, 28V LDO Regulator With Shutdown, 2.5V Fixed Output, SOT-223
pins: 1 OUT, 2 GND, 3 IN

## MCP1804x-2502xMB
designator *  value MCP1804x-2502xMB  Reference: U
150mA, 28V LDO Regulator With Shutdown, 2.5V Fixed Output, SOT-89-3; ki_keywords: linear regulator ldo fixed positive; ki_fp_filters: SOT?89*; Footprint: Package_TO_SOT_SMD:SOT-89-3; Datasheet: http://ww1.microchip.com/downloads/en/DeviceDoc/20002200D.pdf; Description_: 150mA, 28V LDO Regulator With Shutdown, 2.5V Fixed Output, SOT-89-3
pins: 1 OUT, 2 GND, 3 IN

## MCP1804x-2502xMT
designator *  value MCP1804x-2502xMT  Reference: U
150mA, 28V LDO Regulator With Shutdown, 2.5V Fixed Output, SOT-89-5; ki_keywords: linear regulator ldo fixed positive; ki_fp_filters: SOT?89*; Footprint: Package_TO_SOT_SMD:SOT-89-5; Datasheet: http://ww1.microchip.com/downloads/en/DeviceDoc/20002200D.pdf; Description_: 150mA, 28V LDO Regulator With Shutdown, 2.5V Fixed Output, SOT-89-5
pins: 1 VOUT, 2 GND, 3 ~{{SHDN}}, 4 NC, 5 VIN

## MCP1804x-2502xOT
designator *  value MCP1804x-2502xOT  Reference: U
150mA, 28V LDO Regulator With Shutdown, 2.5V Fixed Output, SOT-23-5; ki_keywords: linear regulator ldo fixed positive; ki_fp_filters: SOT?23*; Footprint: Package_TO_SOT_SMD:SOT-23-5; Datasheet: http://ww1.microchip.com/downloads/en/DeviceDoc/20002200D.pdf; Description_: 150mA, 28V LDO Regulator With Shutdown, 2.5V Fixed Output, SOT-23-5
pins: 1 VIN, 2 GND, 3 NC, 4 ~{{SHDN}}, 5 VOUT

## MCP1804x-3002xDB
designator *  value MCP1804x-3002xDB  Reference: U
150mA, 28V LDO Regulator With Shutdown, 3.0V Fixed Output, SOT-223; ki_keywords: linear regulator ldo fixed positive; ki_fp_filters: SOT?223*; Footprint: Package_TO_SOT_SMD:SOT-223-3_TabPin2; Datasheet: http://ww1.microchip.com/downloads/en/DeviceDoc/20002200D.pdf; Description_: 150mA, 28V LDO Regulator With Shutdown, 3.0V Fixed Output, SOT-223
pins: 1 OUT, 2 GND, 3 IN

## MCP1804x-3002xMB
designator *  value MCP1804x-3002xMB  Reference: U
150mA, 28V LDO Regulator With Shutdown, 3.0V Fixed Output, SOT-89-3; ki_keywords: linear regulator ldo fixed positive; ki_fp_filters: SOT?89*; Footprint: Package_TO_SOT_SMD:SOT-89-3; Datasheet: http://ww1.microchip.com/downloads/en/DeviceDoc/20002200D.pdf; Description_: 150mA, 28V LDO Regulator With Shutdown, 3.0V Fixed Output, SOT-89-3
pins: 1 OUT, 2 GND, 3 IN

## MCP1804x-3002xMT
designator *  value MCP1804x-3002xMT  Reference: U
150mA, 28V LDO Regulator With Shutdown, 3.0V Fixed Output, SOT-89-5; ki_keywords: linear regulator ldo fixed positive; ki_fp_filters: SOT?89*; Footprint: Package_TO_SOT_SMD:SOT-89-5; Datasheet: http://ww1.microchip.com/downloads/en/DeviceDoc/20002200D.pdf; Description_: 150mA, 28V LDO Regulator With Shutdown, 3.0V Fixed Output, SOT-89-5
pins: 1 VOUT, 2 GND, 3 ~{{SHDN}}, 4 NC, 5 VIN

## MCP1804x-3002xOT
designator *  value MCP1804x-3002xOT  Reference: U
150mA, 28V LDO Regulator With Shutdown, 3.0V Fixed Output, SOT-23-5; ki_keywords: linear regulator ldo fixed positive; ki_fp_filters: SOT?23*; Footprint: Package_TO_SOT_SMD:SOT-23-5; Datasheet: http://ww1.microchip.com/downloads/en/DeviceDoc/20002200D.pdf; Description_: 150mA, 28V LDO Regulator With Shutdown, 3.0V Fixed Output, SOT-23-5
pins: 1 VIN, 2 GND, 3 NC, 4 ~{{SHDN}}, 5 VOUT

## MCP1804x-3302xDB
designator *  value MCP1804x-3302xDB  Reference: U
150mA, 28V LDO Regulator With Shutdown, 3.3V Fixed Output, SOT-223; ki_keywords: linear regulator ldo fixed positive; ki_fp_filters: SOT?223*; Footprint: Package_TO_SOT_SMD:SOT-223-3_TabPin2; Datasheet: http://ww1.microchip.com/downloads/en/DeviceDoc/20002200D.pdf; Description_: 150mA, 28V LDO Regulator With Shutdown, 3.3V Fixed Output, SOT-223
pins: 1 OUT, 2 GND, 3 IN

## MCP1804x-3302xMB
designator *  value MCP1804x-3302xMB  Reference: U
150mA, 28V LDO Regulator With Shutdown, 3.3V Fixed Output, SOT-89-3; ki_keywords: linear regulator ldo fixed positive; ki_fp_filters: SOT?89*; Footprint: Package_TO_SOT_SMD:SOT-89-3; Datasheet: http://ww1.microchip.com/downloads/en/DeviceDoc/20002200D.pdf; Description_: 150mA, 28V LDO Regulator With Shutdown, 3.3V Fixed Output, SOT-89-3
pins: 1 OUT, 2 GND, 3 IN

## MCP1804x-3302xMT
designator *  value MCP1804x-3302xMT  Reference: U
150mA, 28V LDO Regulator With Shutdown, 3.3V Fixed Output, SOT-89-5; ki_keywords: linear regulator ldo fixed positive; ki_fp_filters: SOT?89*; Footprint: Package_TO_SOT_SMD:SOT-89-5; Datasheet: http://ww1.microchip.com/downloads/en/DeviceDoc/20002200D.pdf; Description_: 150mA, 28V LDO Regulator With Shutdown, 3.3V Fixed Output, SOT-89-5
pins: 1 VOUT, 2 GND, 3 ~{{SHDN}}, 4 NC, 5 VIN

## MCP1804x-3302xOT
designator *  value MCP1804x-3302xOT  Reference: U
150mA, 28V LDO Regulator With Shutdown, 3.3V Fixed Output, SOT-23-5; ki_keywords: linear regulator ldo fixed positive; ki_fp_filters: SOT?23*; Footprint: Package_TO_SOT_SMD:SOT-23-5; Datasheet: http://ww1.microchip.com/downloads/en/DeviceDoc/20002200D.pdf; Description_: 150mA, 28V LDO Regulator With Shutdown, 3.3V Fixed Output, SOT-23-5
pins: 1 VIN, 2 GND, 3 NC, 4 ~{{SHDN}}, 5 VOUT

## MCP1804x-5002xDB
designator *  value MCP1804x-5002xDB  Reference: U
150mA, 28V LDO Regulator With Shutdown, 5.0V Fixed Output, SOT-223; ki_keywords: linear regulator ldo fixed positive; ki_fp_filters: SOT?223*; Footprint: Package_TO_SOT_SMD:SOT-223-3_TabPin2; Datasheet: http://ww1.microchip.com/downloads/en/DeviceDoc/20002200D.pdf; Description_: 150mA, 28V LDO Regulator With Shutdown, 5.0V Fixed Output, SOT-223
pins: 1 OUT, 2 GND, 3 IN

## MCP1804x-5002xMB
designator *  value MCP1804x-5002xMB  Reference: U
150mA, 28V LDO Regulator With Shutdown, 5.0V Fixed Output, SOT-89-3; ki_keywords: linear regulator ldo fixed positive; ki_fp_filters: SOT?89*; Footprint: Package_TO_SOT_SMD:SOT-89-3; Datasheet: http://ww1.microchip.com/downloads/en/DeviceDoc/20002200D.pdf; Description_: 150mA, 28V LDO Regulator With Shutdown, 5.0V Fixed Output, SOT-89-3
pins: 1 OUT, 2 GND, 3 IN

## MCP1804x-5002xMT
designator *  value MCP1804x-5002xMT  Reference: U
150mA, 28V LDO Regulator With Shutdown, 5.0V Fixed Output, SOT-89-5; ki_keywords: linear regulator ldo fixed positive; ki_fp_filters: SOT?89*; Footprint: Package_TO_SOT_SMD:SOT-89-5; Datasheet: http://ww1.microchip.com/downloads/en/DeviceDoc/20002200D.pdf; Description_: 150mA, 28V LDO Regulator With Shutdown, 5.0V Fixed Output, SOT-89-5
pins: 1 VOUT, 2 GND, 3 ~{{SHDN}}, 4 NC, 5 VIN

## MCP1804x-5002xOT
designator *  value MCP1804x-5002xOT  Reference: U
150mA, 28V LDO Regulator With Shutdown, 5.0V Fixed Output, SOT-23-5; ki_keywords: linear regulator ldo fixed positive; ki_fp_filters: SOT?23*; Footprint: Package_TO_SOT_SMD:SOT-23-5; Datasheet: http://ww1.microchip.com/downloads/en/DeviceDoc/20002200D.pdf; Description_: 150mA, 28V LDO Regulator With Shutdown, 5.0V Fixed Output, SOT-23-5
pins: 1 VIN, 2 GND, 3 NC, 4 ~{{SHDN}}, 5 VOUT

## MCP1804x-A002xDB
designator *  value MCP1804x-A002xDB  Reference: U
150mA, 28V LDO Regulator With Shutdown, 10.0V Fixed Output, SOT-223; ki_keywords: linear regulator ldo fixed positive; ki_fp_filters: SOT?223*; Footprint: Package_TO_SOT_SMD:SOT-223-3_TabPin2; Datasheet: http://ww1.microchip.com/downloads/en/DeviceDoc/20002200D.pdf; Description_: 150mA, 28V LDO Regulator With Shutdown, 10.0V Fixed Output, SOT-223
pins: 1 OUT, 2 GND, 3 IN

## MCP1804x-A002xMB
designator *  value MCP1804x-A002xMB  Reference: U
150mA, 28V LDO Regulator With Shutdown, 10.0V Fixed Output, SOT-89-3; ki_keywords: linear regulator ldo fixed positive; ki_fp_filters: SOT?89*; Footprint: Package_TO_SOT_SMD:SOT-89-3; Datasheet: http://ww1.microchip.com/downloads/en/DeviceDoc/20002200D.pdf; Description_: 150mA, 28V LDO Regulator With Shutdown, 10.0V Fixed Output, SOT-89-3
pins: 1 OUT, 2 GND, 3 IN

## MCP1804x-A002xMT
designator *  value MCP1804x-A002xMT  Reference: U
150mA, 28V LDO Regulator With Shutdown, 10.0V Fixed Output, SOT-89-5; ki_keywords: linear regulator ldo fixed positive; ki_fp_filters: SOT?89*; Footprint: Package_TO_SOT_SMD:SOT-89-5; Datasheet: http://ww1.microchip.com/downloads/en/DeviceDoc/20002200D.pdf; Description_: 150mA, 28V LDO Regulator With Shutdown, 10.0V Fixed Output, SOT-89-5
pins: 1 VOUT, 2 GND, 3 ~{{SHDN}}, 4 NC, 5 VIN

## MCP1804x-A002xOT
designator *  value MCP1804x-A002xOT  Reference: U
150mA, 28V LDO Regulator With Shutdown, 10.0V Fixed Output, SOT-23-5; ki_keywords: linear regulator ldo fixed positive; ki_fp_filters: SOT?23*; Footprint: Package_TO_SOT_SMD:SOT-23-5; Datasheet: http://ww1.microchip.com/downloads/en/DeviceDoc/20002200D.pdf; Description_: 150mA, 28V LDO Regulator With Shutdown, 10.0V Fixed Output, SOT-23-5
pins: 1 VIN, 2 GND, 3 NC, 4 ~{{SHDN}}, 5 VOUT

## MCP1804x-C002xDB
designator *  value MCP1804x-C002xDB  Reference: U
150mA, 28V LDO Regulator With Shutdown, 12.0V Fixed Output, SOT-223; ki_keywords: linear regulator ldo fixed positive; ki_fp_filters: SOT?223*; Footprint: Package_TO_SOT_SMD:SOT-223-3_TabPin2; Datasheet: http://ww1.microchip.com/downloads/en/DeviceDoc/20002200D.pdf; Description_: 150mA, 28V LDO Regulator With Shutdown, 12.0V Fixed Output, SOT-223
pins: 1 OUT, 2 GND, 3 IN

## MCP1804x-C002xMB
designator *  value MCP1804x-C002xMB  Reference: U
150mA, 28V LDO Regulator With Shutdown, 12.0V Fixed Output, SOT-89-3; ki_keywords: linear regulator ldo fixed positive; ki_fp_filters: SOT?89*; Footprint: Package_TO_SOT_SMD:SOT-89-3; Datasheet: http://ww1.microchip.com/downloads/en/DeviceDoc/20002200D.pdf; Description_: 150mA, 28V LDO Regulator With Shutdown, 12.0V Fixed Output, SOT-89-3
pins: 1 OUT, 2 GND, 3 IN

## MCP1804x-C002xMT
designator *  value MCP1804x-C002xMT  Reference: U
150mA, 28V LDO Regulator With Shutdown, 12.0V Fixed Output, SOT-89-5; ki_keywords: linear regulator ldo fixed positive; ki_fp_filters: SOT?89*; Footprint: Package_TO_SOT_SMD:SOT-89-5; Datasheet: http://ww1.microchip.com/downloads/en/DeviceDoc/20002200D.pdf; Description_: 150mA, 28V LDO Regulator With Shutdown, 12.0V Fixed Output, SOT-89-5
pins: 1 VOUT, 2 GND, 3 ~{{SHDN}}, 4 NC, 5 VIN

## MCP1804x-C002xOT
designator *  value MCP1804x-C002xOT  Reference: U
150mA, 28V LDO Regulator With Shutdown, 12.0V Fixed Output, SOT-23-5; ki_keywords: linear regulator ldo fixed positive; ki_fp_filters: SOT?23*; Footprint: Package_TO_SOT_SMD:SOT-23-5; Datasheet: http://ww1.microchip.com/downloads/en/DeviceDoc/20002200D.pdf; Description_: 150mA, 28V LDO Regulator With Shutdown, 12.0V Fixed Output, SOT-23-5
pins: 1 VIN, 2 GND, 3 NC, 4 ~{{SHDN}}, 5 VOUT

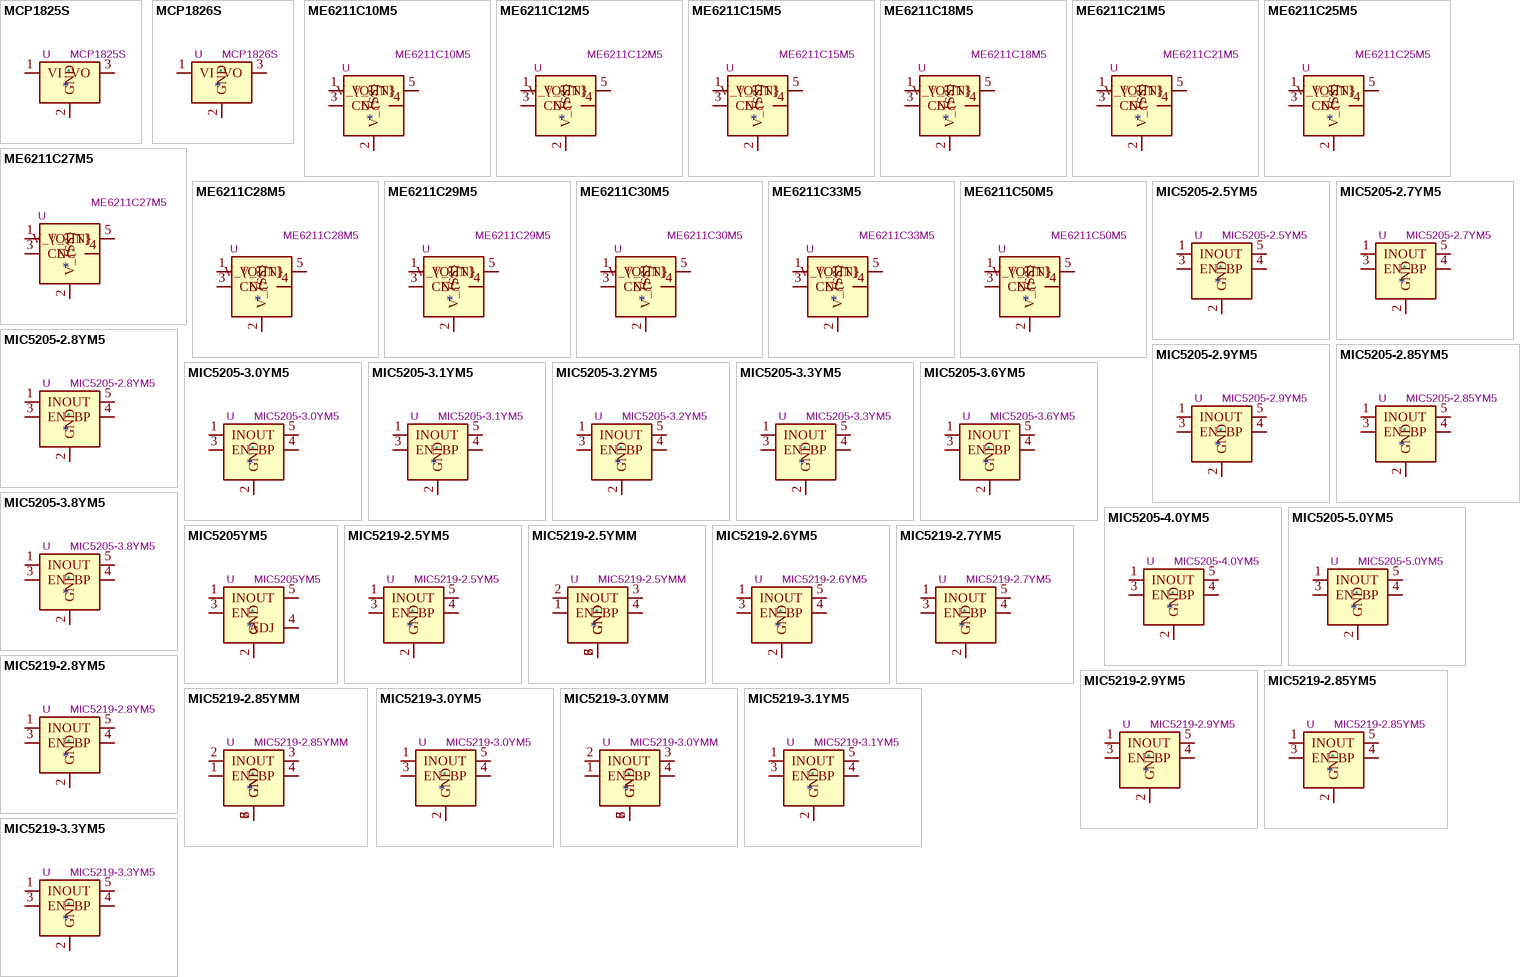
[diagram p26: symbols MCP1825S to MIC5219-3.3YM5]

## MCP1825S
designator *  value MCP1825S  Reference: U
500mA, Low-Voltage, Low Quiescent Current LDO Regulator, SOT-223, TO-220, TO-263; ki_keywords: regulator linear ldo; ki_fp_filters: SOT?223*TabPin2* TO?220* TO?263*; Datasheet: http://ww1.microchip.com/downloads/en/devicedoc/22056b.pdf; Description_: 500mA, Low-Voltage, Low Quiescent Current LDO Regulator, SOT-223, TO-220, TO-263
pins: 1 VI, 2 GND, 3 VO

## MCP1826S
designator *  value MCP1826S  Reference: U
1000mA, Low-Voltage, Low Quiescent Current LDO Regulator, SOT-223, TO-220, TO-263; ki_keywords: regulator linear ldo; ki_fp_filters: SOT?223*TabPin2* TO?220* TO?263*; Datasheet: http://ww1.microchip.com/downloads/en/DeviceDoc/22057B.pdf; Description_: 1000mA, Low-Voltage, Low Quiescent Current LDO Regulator, SOT-223, TO-220, TO-263
pins: 1 VI, 2 GND, 3 VO

## ME6211C10M5
designator *  value ME6211C10M5  Reference: U
300mA low dropout linear regulator, shutdown pin, 6.5V max input voltage, 1.0V fixed positive output, SOT-23-5; ki_keywords: linear regulator ldo fixed positive; ki_fp_filters: SOT?23?5*; Footprint: Package_TO_SOT_SMD:SOT-23-5; Datasheet: https://www.lcsc.com/datasheet/lcsc_datasheet_2304140030_MICRONE-Nanjing-Micro-One-Elec-ME6211C33R5G_C235316.pdf; Description_: 300mA low dropout linear regulator, shutdown pin, 6.5V max input voltage, 1.0V fixed positive output, SOT-23-5
pins: 1 V_{IN}, 2 V_{SS}, 3 CE, 4 NC, 5 V_{OUT}

## ME6211C12M5
designator *  value ME6211C12M5  Reference: U
300mA low dropout linear regulator, shutdown pin, 6.5V max input voltage, 1.2V fixed positive output, SOT-23-5; ki_keywords: linear regulator ldo fixed positive; ki_fp_filters: SOT?23?5*; Footprint: Package_TO_SOT_SMD:SOT-23-5; Datasheet: https://www.lcsc.com/datasheet/lcsc_datasheet_2304140030_MICRONE-Nanjing-Micro-One-Elec-ME6211C33R5G_C235316.pdf; Description_: 300mA low dropout linear regulator, shutdown pin, 6.5V max input voltage, 1.2V fixed positive output, SOT-23-5
pins: 1 V_{IN}, 2 V_{SS}, 3 CE, 4 NC, 5 V_{OUT}

## ME6211C15M5
designator *  value ME6211C15M5  Reference: U
300mA low dropout linear regulator, shutdown pin, 6.5V max input voltage, 1.5V fixed positive output, SOT-23-5; ki_keywords: linear regulator ldo fixed positive; ki_fp_filters: SOT?23?5*; Footprint: Package_TO_SOT_SMD:SOT-23-5; Datasheet: https://www.lcsc.com/datasheet/lcsc_datasheet_2304140030_MICRONE-Nanjing-Micro-One-Elec-ME6211C33R5G_C235316.pdf; Description_: 300mA low dropout linear regulator, shutdown pin, 6.5V max input voltage, 1.5V fixed positive output, SOT-23-5
pins: 1 V_{IN}, 2 V_{SS}, 3 CE, 4 NC, 5 V_{OUT}

## ME6211C18M5
designator *  value ME6211C18M5  Reference: U
300mA low dropout linear regulator, shutdown pin, 6.5V max input voltage, 1.8V fixed positive output, SOT-23-5; ki_keywords: linear regulator ldo fixed positive; ki_fp_filters: SOT?23?5*; Footprint: Package_TO_SOT_SMD:SOT-23-5; Datasheet: https://www.lcsc.com/datasheet/lcsc_datasheet_2304140030_MICRONE-Nanjing-Micro-One-Elec-ME6211C33R5G_C235316.pdf; Description_: 300mA low dropout linear regulator, shutdown pin, 6.5V max input voltage, 1.8V fixed positive output, SOT-23-5
pins: 1 V_{IN}, 2 V_{SS}, 3 CE, 4 NC, 5 V_{OUT}

## ME6211C21M5
designator *  value ME6211C21M5  Reference: U
300mA low dropout linear regulator, shutdown pin, 6.5V max input voltage, 2.1V fixed positive output, SOT-23-5; ki_keywords: linear regulator ldo fixed positive; ki_fp_filters: SOT?23?5*; Footprint: Package_TO_SOT_SMD:SOT-23-5; Datasheet: https://www.lcsc.com/datasheet/lcsc_datasheet_2304140030_MICRONE-Nanjing-Micro-One-Elec-ME6211C33R5G_C235316.pdf; Description_: 300mA low dropout linear regulator, shutdown pin, 6.5V max input voltage, 2.1V fixed positive output, SOT-23-5
pins: 1 V_{IN}, 2 V_{SS}, 3 CE, 4 NC, 5 V_{OUT}

## ME6211C25M5
designator *  value ME6211C25M5  Reference: U
400mA low dropout linear regulator, shutdown pin, 6.5V max input voltage, 2.5V fixed positive output, SOT-23-5; ki_keywords: linear regulator ldo fixed positive; ki_fp_filters: SOT?23?5*; Footprint: Package_TO_SOT_SMD:SOT-23-5; Datasheet: https://www.lcsc.com/datasheet/lcsc_datasheet_2304140030_MICRONE-Nanjing-Micro-One-Elec-ME6211C33R5G_C235316.pdf; Description_: 400mA low dropout linear regulator, shutdown pin, 6.5V max input voltage, 2.5V fixed positive output, SOT-23-5
pins: 1 V_{IN}, 2 V_{SS}, 3 CE, 4 NC, 5 V_{OUT}

## ME6211C27M5
designator *  value ME6211C27M5  Reference: U
400mA low dropout linear regulator, shutdown pin, 6.5V max input voltage, 2.7V fixed positive output, SOT-23-5; ki_keywords: linear regulator ldo fixed positive; ki_fp_filters: SOT?23?5*; Footprint: Package_TO_SOT_SMD:SOT-23-5; Datasheet: https://www.lcsc.com/datasheet/lcsc_datasheet_2304140030_MICRONE-Nanjing-Micro-One-Elec-ME6211C33R5G_C235316.pdf; Description_: 400mA low dropout linear regulator, shutdown pin, 6.5V max input voltage, 2.7V fixed positive output, SOT-23-5
pins: 1 V_{IN}, 2 V_{SS}, 3 CE, 4 NC, 5 V_{OUT}

## ME6211C28M5
designator *  value ME6211C28M5  Reference: U
450mA low dropout linear regulator, shutdown pin, 6.5V max input voltage, 2.8V fixed positive output, SOT-23-5; ki_keywords: linear regulator ldo fixed positive; ki_fp_filters: SOT?23?5*; Footprint: Package_TO_SOT_SMD:SOT-23-5; Datasheet: https://www.lcsc.com/datasheet/lcsc_datasheet_2304140030_MICRONE-Nanjing-Micro-One-Elec-ME6211C33R5G_C235316.pdf; Description_: 450mA low dropout linear regulator, shutdown pin, 6.5V max input voltage, 2.8V fixed positive output, SOT-23-5
pins: 1 V_{IN}, 2 V_{SS}, 3 CE, 4 NC, 5 V_{OUT}

## ME6211C29M5
designator *  value ME6211C29M5  Reference: U
450mA low dropout linear regulator, shutdown pin, 6.5V max input voltage, 2.9V fixed positive output, SOT-23-5; ki_keywords: linear regulator ldo fixed positive; ki_fp_filters: SOT?23?5*; Footprint: Package_TO_SOT_SMD:SOT-23-5; Datasheet: https://www.lcsc.com/datasheet/lcsc_datasheet_2304140030_MICRONE-Nanjing-Micro-One-Elec-ME6211C33R5G_C235316.pdf; Description_: 450mA low dropout linear regulator, shutdown pin, 6.5V max input voltage, 2.9V fixed positive output, SOT-23-5
pins: 1 V_{IN}, 2 V_{SS}, 3 CE, 4 NC, 5 V_{OUT}

## ME6211C30M5
designator *  value ME6211C30M5  Reference: U
500mA low dropout linear regulator, shutdown pin, 6.5V max input voltage, 3.0V fixed positive output, SOT-23-5; ki_keywords: linear regulator ldo fixed positive; ki_fp_filters: SOT?23?5*; Footprint: Package_TO_SOT_SMD:SOT-23-5; Datasheet: https://www.lcsc.com/datasheet/lcsc_datasheet_2304140030_MICRONE-Nanjing-Micro-One-Elec-ME6211C33R5G_C235316.pdf; Description_: 500mA low dropout linear regulator, shutdown pin, 6.5V max input voltage, 3.0V fixed positive output, SOT-23-5
pins: 1 V_{IN}, 2 V_{SS}, 3 CE, 4 NC, 5 V_{OUT}

## ME6211C33M5
designator *  value ME6211C33M5  Reference: U
500mA low dropout linear regulator, shutdown pin, 6.5V max input voltage, 3.3V fixed positive output, SOT-23-5; ki_keywords: linear regulator ldo fixed positive; ki_fp_filters: SOT?23?5*; Footprint: Package_TO_SOT_SMD:SOT-23-5; Datasheet: https://www.lcsc.com/datasheet/lcsc_datasheet_2304140030_MICRONE-Nanjing-Micro-One-Elec-ME6211C33R5G_C235316.pdf; Description_: 500mA low dropout linear regulator, shutdown pin, 6.5V max input voltage, 3.3V fixed positive output, SOT-23-5
pins: 1 V_{IN}, 2 V_{SS}, 3 CE, 4 NC, 5 V_{OUT}

## ME6211C50M5
designator *  value ME6211C50M5  Reference: U
500mA low dropout linear regulator, shutdown pin, 6.5V max input voltage, 5.0V fixed positive output, SOT-23-5; ki_keywords: linear regulator ldo fixed positive; ki_fp_filters: SOT?23?5*; Footprint: Package_TO_SOT_SMD:SOT-23-5; Datasheet: https://www.lcsc.com/datasheet/lcsc_datasheet_2304140030_MICRONE-Nanjing-Micro-One-Elec-ME6211C33R5G_C235316.pdf; Description_: 500mA low dropout linear regulator, shutdown pin, 6.5V max input voltage, 5.0V fixed positive output, SOT-23-5
pins: 1 V_{IN}, 2 V_{SS}, 3 CE, 4 NC, 5 V_{OUT}

## MIC5205-2.5YM5
designator *  value MIC5205-2.5YM5  Reference: U
150mA low dropout linear regulator, fixed 2.5V output, SOT-23-5; ki_keywords: 150mA low-noise LDO linear voltage regulator fixed positive; ki_fp_filters: SOT?23*; Footprint: Package_TO_SOT_SMD:SOT-23-5; Datasheet: http://ww1.microchip.com/downloads/en/DeviceDoc/20005785A.pdf; Description_: 150mA low dropout linear regulator, fixed 2.5V output, SOT-23-5
pins: 1 IN, 2 GND, 3 EN, 4 BP, 5 OUT